# EAGLE library part LP2988 (library My Library-adm)
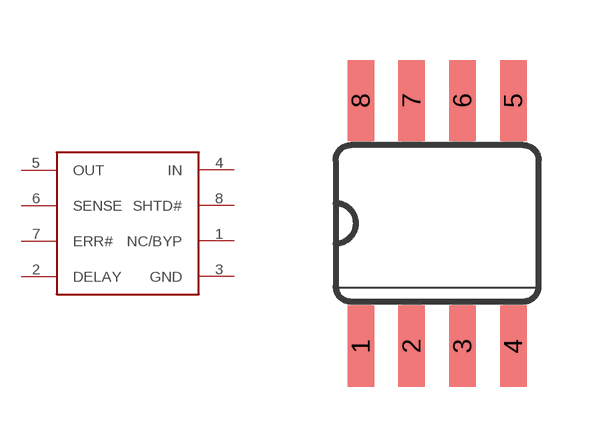
[diagram p28: symbol with the pads of SO08; footprint SO08]

Designator prefix -

## LP2988SOIC8  [SO08]
1  NC/BYP
2  DELAY
3  GND
4  IN
5  OUT
6  SENSE
7  ERR#
8  SHTD#

## Footprint SO08 (pad centres in mm)
Small Outline Package SO-8, CASE 751
smd 0.66 x 2.032: 1 -1.905,-3.073; 2 -0.635,-3.073; 3 0.635,-3.073; 4 1.905,-3.073; 5 1.905,3.073; 6 0.635,3.073; 7 -0.635,3.073; 8 -1.905,3.073